# Altium integrated library WE-MAPI (rev22a).IntLib: 137 symbols (part 1 of 2)
Pins are listed as number, name and electrical type; pins without a type are passive.

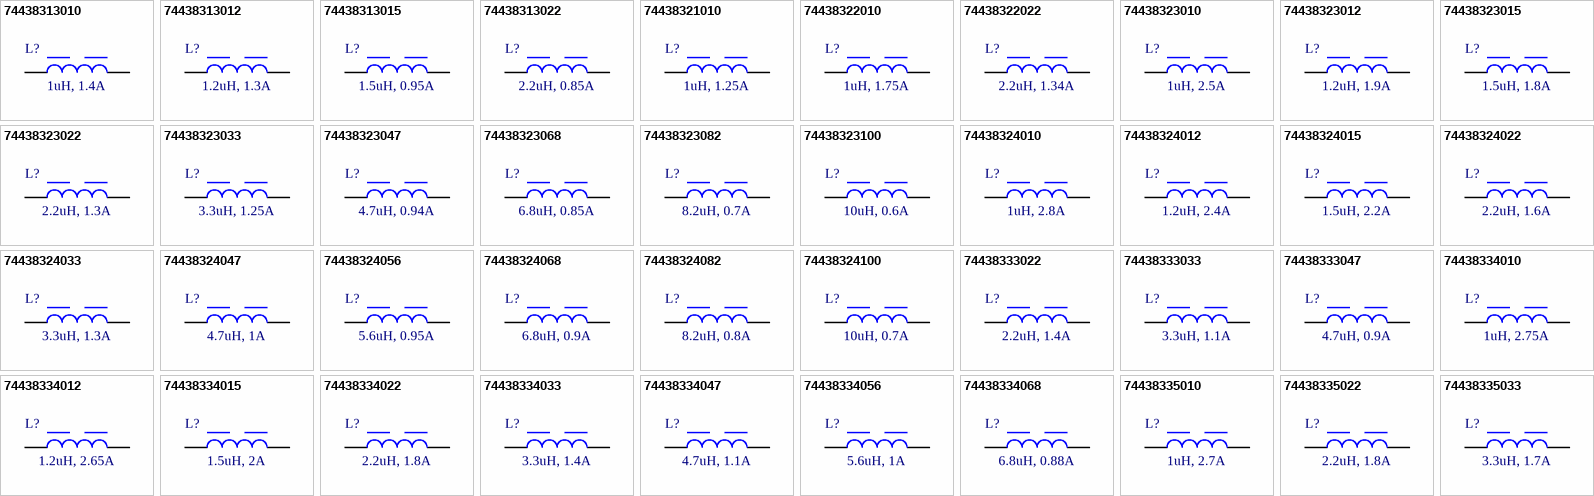
[diagram p0: symbols 74438313010 to 74438335033]

## 74438313010
designator L?, comment 1uH, 1.4A
WE-MAPI SMT Power Inductor, size 1610, 1uH, 1.4A; Manufacturer: Wurth Elektronik; Manufacturer Part Number: 74438313010; DC Resistance typ.: 127mOhm; DC Resistance max.: 159mOhm; Self Resonant Frequency: 111MHz; Saturation Current: 3.4A; ComponentLink1Description: Manufacturer; ComponentLink1URL: http://www.we-online.de; ComponentLink2Description: Datasheet; ComponentLink2URL: https://www.we-online.com/catalog/datasheet/74438313010.pdf; Mounting Technology: SMT; Operating Temperature: -40 to +125degC; Packaging: Tape and Reel; Size: 1610; Inductance: 1uH; Rated Current: 1.4A; Height: 1mm; Length: 1.6mm; Width: 1.6mm
footprint WE-MAPI_1610
pins: 1, 2

## 74438313012
designator L?, comment 1.2uH, 1.3A
WE-MAPI SMT Power Inductor, size 1610, 1.2uH, 1.3A; Manufacturer: Wurth Elektronik; Manufacturer Part Number: 74438313012; DC Resistance typ.: 140mOhm; DC Resistance max.: 174mOhm; Self Resonant Frequency: 109MHz; Saturation Current: 3.2A; ComponentLink1Description: Manufacturer; ComponentLink1URL: http://www.we-online.de; ComponentLink2Description: Datasheet; ComponentLink2URL: https://www.we-online.com/catalog/datasheet/74438313012.pdf; Mounting Technology: SMT; Operating Temperature: -40 to +125degC; Packaging: Tape and Reel; Size: 1610; Inductance: 1.2uH; Rated Current: 1.3A; Height: 1mm; Length: 1.6mm; Width: 1.6mm
footprint WE-MAPI_1610
pins: 1, 2

## 74438313015
designator L?, comment 1.5uH, 0.95A
WE-MAPI SMT Power Inductor, size 1610, 1.5uH, 0.95A; Manufacturer: Wurth Elektronik; Manufacturer Part Number: 74438313015; DC Resistance typ.: 189mOhm; DC Resistance max.: 237mOhm; Self Resonant Frequency: 90MHz; Saturation Current: 2.7A; ComponentLink1Description: Manufacturer; ComponentLink1URL: http://www.we-online.de; ComponentLink2Description: Datasheet; ComponentLink2URL: https://www.we-online.com/catalog/datasheet/74438313015.pdf; Mounting Technology: SMT; Operating Temperature: -40 to +125degC; Packaging: Tape and Reel; Size: 1610; Inductance: 1.5uH; Rated Current: 0.95A; Height: 1mm; Length: 1.6mm; Width: 1.6mm
footprint WE-MAPI_1610
pins: 1, 2

## 74438313022
designator L?, comment 2.2uH, 0.85A
WE-MAPI SMT Power Inductor, size 1610, 2.2uH, 0.85A; Manufacturer: Wurth Elektronik; Manufacturer Part Number: 74438313022; DC Resistance typ.: 337mOhm; DC Resistance max.: 388mOhm; Self Resonant Frequency: 70MHz; Saturation Current: 2.5A; ComponentLink1Description: Manufacturer; ComponentLink1URL: http://www.we-online.de; ComponentLink2Description: Datasheet; ComponentLink2URL: https://www.we-online.com/catalog/datasheet/74438313022.pdf; Mounting Technology: SMT; Operating Temperature: -40 to +125degC; Packaging: Tape and Reel; Size: 1610; Inductance: 2.2uH; Rated Current: 0.85A; Height: 1mm; Length: 1.6mm; Width: 1.6mm
footprint WE-MAPI_1610
pins: 1, 2

## 74438321010
designator L?, comment 1uH, 1.25A
WE-MAPI SMT Power Inductor, size 2506, 1uH, 1.25A; Manufacturer: Wurth Elektronik; Manufacturer Part Number: 74438321010; DC Resistance typ.: 163mOhm; DC Resistance max.: 196mOhm; Self Resonant Frequency: 90MHz; Saturation Current: 2.5A; ComponentLink1Description: Manufacturer; ComponentLink1URL: http://www.we-online.de; ComponentLink2Description: Datasheet; ComponentLink2URL: https://www.we-online.com/catalog/datasheet/74438321010.pdf; Mounting Technology: SMT; Operating Temperature: -40 to +125degC; Packaging: Tape and Reel; Size: 2506; Inductance: 1uH; Rated Current: 1.25A; Height: 0.6mm; Length: 2.5mm; Width: 2mm
footprint WE-MAPI_2506
pins: 1, 2

## 74438322010
designator L?, comment 1uH, 1.75A
WE-MAPI SMT Power Inductor, size 2508, 1uH, 1.75A; Manufacturer: Wurth Elektronik; Manufacturer Part Number: 74438322010; DC Resistance typ.: 107mOhm; DC Resistance max.: 133mOhm; Self Resonant Frequency: 100MHz; Saturation Current: 3.35A; ComponentLink1Description: Manufacturer; ComponentLink1URL: http://www.we-online.de; ComponentLink2Description: Datasheet; ComponentLink2URL: https://www.we-online.com/catalog/datasheet/74438322010.pdf; Mounting Technology: SMT; Operating Temperature: -40 to +125degC; Packaging: Tape and Reel; Size: 2508; Inductance: 1uH; Rated Current: 1.75A; Height: 0.8mm; Length: 2.5mm; Width: 2mm
footprint WE-MAPI_2508
pins: 1, 2

## 74438322022
designator L?, comment 2.2uH, 1.34A
WE-MAPI SMT Power Inductor, size 2508, 2.2uH, 1.34A; Manufacturer: Wurth Elektronik; Manufacturer Part Number: 74438322022; DC Resistance typ.: 252mOhm; DC Resistance max.: 302mOhm; Self Resonant Frequency: 60MHz; Saturation Current: 2.2A; ComponentLink1Description: Manufacturer; ComponentLink1URL: http://www.we-online.de; ComponentLink2Description: Datasheet; ComponentLink2URL: https://www.we-online.com/catalog/datasheet/74438322022.pdf; Mounting Technology: SMT; Operating Temperature: -40 to +125degC; Packaging: Tape and Reel; Size: 2508; Inductance: 2.2uH; Rated Current: 1.34A; Height: 0.8mm; Length: 2.5mm; Width: 2mm
footprint WE-MAPI_2508
pins: 1, 2

## 74438323010
designator L?, comment 1uH, 2.5A
WE-MAPI SMT Power Inductor, size 2510, 1uH, 2.5A; Manufacturer: Wurth Elektronik; Manufacturer Part Number: 74438323010; DC Resistance typ.: 63mOhm; DC Resistance max.: 75mOhm; Self Resonant Frequency: 80MHz; Saturation Current: 4A; ComponentLink1Description: Manufacturer; ComponentLink1URL: http://www.we-online.de; ComponentLink2Description: Datasheet; ComponentLink2URL: https://www.we-online.com/catalog/datasheet/74438323010.pdf; Mounting Technology: SMT; Operating Temperature: -40 to +125degC; Packaging: Tape and Reel; Size: 2510; Inductance: 1uH; Rated Current: 2.5A; Height: 1mm; Length: 2.5mm; Width: 2mm
footprint WE-MAPI_2510
pins: 1, 2

## 74438323012
designator L?, comment 1.2uH, 1.9A
WE-MAPI SMT Power Inductor, size 2510, 1.2uH, 1.9A; Manufacturer: Wurth Elektronik; Manufacturer Part Number: 74438323012; DC Resistance typ.: 82mOhm; DC Resistance max.: 106mOhm; Self Resonant Frequency: 75MHz; Saturation Current: 3.8A; ComponentLink1Description: Manufacturer; ComponentLink1URL: http://www.we-online.de; ComponentLink2Description: Datasheet; ComponentLink2URL: https://www.we-online.com/catalog/datasheet/74438323012.pdf; Mounting Technology: SMT; Operating Temperature: -40 to +125degC; Packaging: Tape and Reel; Size: 2510; Inductance: 1.2uH; Rated Current: 1.9A; Height: 1mm; Length: 2.5mm; Width: 2mm
footprint WE-MAPI_2510
pins: 1, 2

## 74438323015
designator L?, comment 1.5uH, 1.8A
WE-MAPI SMT Power Inductor, size 2510, 1.5uH, 1.8A; Manufacturer: Wurth Elektronik; Manufacturer Part Number: 74438323015; DC Resistance typ.: 92mOhm; DC Resistance max.: 110mOhm; Self Resonant Frequency: 65MHz; Saturation Current: 3.5A; ComponentLink1Description: Manufacturer; ComponentLink1URL: http://www.we-online.de; ComponentLink2Description: Datasheet; ComponentLink2URL: https://www.we-online.com/catalog/datasheet/74438323015.pdf; Mounting Technology: SMT; Operating Temperature: -40 to +125degC; Packaging: Tape and Reel; Size: 2510; Inductance: 1.5uH; Rated Current: 1.8A; Height: 1mm; Length: 2.5mm; Width: 2mm
footprint WE-MAPI_2510
pins: 1, 2

## 74438323022
designator L?, comment 2.2uH, 1.3A
WE-MAPI SMT Power Inductor, size 2510, 2.2uH, 1.3A; Manufacturer: Wurth Elektronik; Manufacturer Part Number: 74438323022; DC Resistance typ.: 147mOhm; DC Resistance max.: 176mOhm; Self Resonant Frequency: 60MHz; Saturation Current: 2.5A; ComponentLink1Description: Manufacturer; ComponentLink1URL: http://www.we-online.de; ComponentLink2Description: Datasheet; ComponentLink2URL: https://www.we-online.com/catalog/datasheet/74438323022.pdf; Mounting Technology: SMT; Operating Temperature: -40 to +125degC; Packaging: Tape and Reel; Size: 2510; Inductance: 2.2uH; Rated Current: 1.3A; Height: 1mm; Length: 2.5mm; Width: 2mm
footprint WE-MAPI_2510
pins: 1, 2

## 74438323033
designator L?, comment 3.3uH, 1.25A
WE-MAPI SMT Power Inductor, size 2510, 3.3uH, 1.25A; Manufacturer: Wurth Elektronik; Manufacturer Part Number: 74438323033; DC Resistance typ.: 220mOhm; DC Resistance max.: 264mOhm; Self Resonant Frequency: 50MHz; Saturation Current: 2.1A; ComponentLink1Description: Manufacturer; ComponentLink1URL: http://www.we-online.de; ComponentLink2Description: Datasheet; ComponentLink2URL: https://www.we-online.com/catalog/datasheet/74438323033.pdf; Mounting Technology: SMT; Operating Temperature: -40 to +125degC; Packaging: Tape and Reel; Size: 2510; Inductance: 3.3uH; Rated Current: 1.25A; Height: 1mm; Length: 2.5mm; Width: 2mm
footprint WE-MAPI_2510
pins: 1, 2

## 74438323047
designator L?, comment 4.7uH, 0.94A
WE-MAPI SMT Power Inductor, size 2510, 4.7uH, 0.94A; Manufacturer: Wurth Elektronik; Manufacturer Part Number: 74438323047; DC Resistance typ.: 338mOhm; DC Resistance max.: 388mOhm; Self Resonant Frequency: 35MHz; Saturation Current: 1.75A; ComponentLink1Description: Manufacturer; ComponentLink1URL: http://www.we-online.de; ComponentLink2Description: Datasheet; ComponentLink2URL: https://www.we-online.com/catalog/datasheet/74438323047.pdf; Mounting Technology: SMT; Operating Temperature: -40 to +125degC; Packaging: Tape and Reel; Size: 2510; Inductance: 4.7uH; Rated Current: 0.94A; Height: 1mm; Length: 2.5mm; Width: 2mm
footprint WE-MAPI_2510
pins: 1, 2

## 74438323068
designator L?, comment 6.8uH, 0.85A
WE-MAPI SMT Power Inductor, size 2510, 6.8uH, 0.85A; Manufacturer: Wurth Elektronik; Manufacturer Part Number: 74438323068; DC Resistance typ.: 563mOhm; DC Resistance max.: 648mOhm; Self Resonant Frequency: 30MHz; Saturation Current: 1.55A; ComponentLink1Description: Manufacturer; ComponentLink1URL: http://www.we-online.de; ComponentLink2Description: Datasheet; ComponentLink2URL: https://www.we-online.com/catalog/datasheet/74438323068.pdf; Mounting Technology: SMT; Operating Temperature: -40 to +125degC; Packaging: Tape and Reel; Size: 2510; Inductance: 6.8uH; Rated Current: 0.85A; Height: 1mm; Length: 2.5mm; Width: 2mm
footprint WE-MAPI_2510
pins: 1, 2

## 74438323082
designator L?, comment 8.2uH, 0.7A
WE-MAPI SMT Power Inductor, size 2510, 8.2uH, 0.7A; Manufacturer: Wurth Elektronik; Manufacturer Part Number: 74438323082; DC Resistance typ.: 646mOhm; DC Resistance max.: 743mOhm; Self Resonant Frequency: 27MHz; Saturation Current: 1.45A; ComponentLink1Description: Manufacturer; ComponentLink1URL: http://www.we-online.de; ComponentLink2Description: Datasheet; ComponentLink2URL: https://www.we-online.com/catalog/datasheet/74438323082.pdf; Mounting Technology: SMT; Operating Temperature: -40 to +125degC; Packaging: Tape and Reel; Size: 2510; Inductance: 8.2uH; Rated Current: 0.7A; Height: 1mm; Length: 2.5mm; Width: 2mm
footprint WE-MAPI_2510
pins: 1, 2

## 74438323100
designator L?, comment 10uH, 0.6A
WE-MAPI SMT Power Inductor, size 2510, 10uH, 0.6A; Manufacturer: Wurth Elektronik; Manufacturer Part Number: 74438323100; DC Resistance typ.: 733mOhm; DC Resistance max.: 843mOhm; Self Resonant Frequency: 25MHz; Saturation Current: 1.35A; ComponentLink1Description: Manufacturer; ComponentLink1URL: http://www.we-online.de; ComponentLink2Description: Datasheet; ComponentLink2URL: https://www.we-online.com/catalog/datasheet/74438323100.pdf; Mounting Technology: SMT; Operating Temperature: -40 to +125degC; Packaging: Tape and Reel; Size: 2510; Inductance: 10uH; Rated Current: 0.6A; Height: 1mm; Length: 2.5mm; Width: 2mm
footprint WE-MAPI_2510
pins: 1, 2

## 74438324010
designator L?, comment 1uH, 2.8A
WE-MAPI SMT Power Inductor, size 2512, 1uH, 2.8A; Manufacturer: Wurth Elektronik; Manufacturer Part Number: 74438324010; DC Resistance typ.: 49mOhm; DC Resistance max.: 60mOhm; Self Resonant Frequency: 85MHz; Saturation Current: 4.9A; ComponentLink1Description: Manufacturer; ComponentLink1URL: http://www.we-online.de; ComponentLink2Description: Datasheet; ComponentLink2URL: https://www.we-online.com/catalog/datasheet/74438324010.pdf; Mounting Technology: SMT; Operating Temperature: -40 to +125degC; Packaging: Tape and Reel; Size: 2512; Inductance: 1uH; Rated Current: 2.8A; Height: 1.2mm; Length: 2.5mm; Width: 2mm
footprint WE-MAPI_2512
pins: 1, 2

## 74438324012
designator L?, comment 1.2uH, 2.4A
WE-MAPI SMT Power Inductor, size 2512, 1.2uH, 2.4A; Manufacturer: Wurth Elektronik; Manufacturer Part Number: 74438324012; DC Resistance typ.: 67mOhm; DC Resistance max.: 80mOhm; Self Resonant Frequency: 80MHz; Saturation Current: 4.5A; ComponentLink1Description: Manufacturer; ComponentLink1URL: http://www.we-online.de; ComponentLink2Description: Datasheet; ComponentLink2URL: https://www.we-online.com/catalog/datasheet/74438324012.pdf; Mounting Technology: SMT; Operating Temperature: -40 to +125degC; Packaging: Tape and Reel; Size: 2512; Inductance: 1.2uH; Rated Current: 2.4A; Height: 1.2mm; Length: 2.5mm; Width: 2mm
footprint WE-MAPI_2512
pins: 1, 2

## 74438324015
designator L?, comment 1.5uH, 2.2A
WE-MAPI SMT Power Inductor, size 2512, 1.5uH, 2.2A; Manufacturer: Wurth Elektronik; Manufacturer Part Number: 74438324015; DC Resistance typ.: 82mOhm; DC Resistance max.: 99mOhm; Self Resonant Frequency: 60MHz; Saturation Current: 3.7A; ComponentLink1Description: Manufacturer; ComponentLink1URL: http://www.we-online.de; ComponentLink2Description: Datasheet; ComponentLink2URL: https://www.we-online.com/catalog/datasheet/74438324015.pdf; Mounting Technology: SMT; Operating Temperature: -40 to +125degC; Packaging: Tape and Reel; Size: 2512; Inductance: 1.5uH; Rated Current: 2.2A; Height: 1.2mm; Length: 2.5mm; Width: 2mm
footprint WE-MAPI_2512
pins: 1, 2

## 74438324022
designator L?, comment 2.2uH, 1.6A
WE-MAPI SMT Power Inductor, size 2512, 2.2uH, 1.6A; Manufacturer: Wurth Elektronik; Manufacturer Part Number: 74438324022; DC Resistance typ.: 123mOhm; DC Resistance max.: 141mOhm; Self Resonant Frequency: 57MHz; Saturation Current: 2.9A; ComponentLink1Description: Manufacturer; ComponentLink1URL: http://www.we-online.de; ComponentLink2Description: Datasheet; ComponentLink2URL: https://www.we-online.com/catalog/datasheet/74438324022.pdf; Mounting Technology: SMT; Operating Temperature: -40 to +125degC; Packaging: Tape and Reel; Size: 2512; Inductance: 2.2uH; Rated Current: 1.6A; Height: 1.2mm; Length: 2.5mm; Width: 2mm
footprint WE-MAPI_2512
pins: 1, 2

## 74438324033
designator L?, comment 3.3uH, 1.3A
WE-MAPI SMT Power Inductor, size 2512, 3.3uH, 1.3A; Manufacturer: Wurth Elektronik; Manufacturer Part Number: 74438324033; DC Resistance typ.: 226mOhm; DC Resistance max.: 260mOhm; Self Resonant Frequency: 42MHz; Saturation Current: 2.6A; ComponentLink1Description: Manufacturer; ComponentLink1URL: http://www.we-online.de; ComponentLink2Description: Datasheet; ComponentLink2URL: https://www.we-online.com/catalog/datasheet/74438324033.pdf; Mounting Technology: SMT; Operating Temperature: -40 to +125degC; Packaging: Tape and Reel; Size: 2512; Inductance: 3.3uH; Rated Current: 1.3A; Height: 1.2mm; Length: 2.5mm; Width: 2mm
footprint WE-MAPI_2512
pins: 1, 2

## 74438324047
designator L?, comment 4.7uH, 1A
WE-MAPI SMT Power Inductor, size 2512, 4.7uH, 1A; Manufacturer: Wurth Elektronik; Manufacturer Part Number: 74438324047; DC Resistance typ.: 300mOhm; DC Resistance max.: 345mOhm; Self Resonant Frequency: 35MHz; Saturation Current: 2.1A; ComponentLink1Description: Manufacturer; ComponentLink1URL: http://www.we-online.de; ComponentLink2Description: Datasheet; ComponentLink2URL: https://www.we-online.com/catalog/datasheet/74438324047.pdf; Mounting Technology: SMT; Operating Temperature: -40 to +125degC; Packaging: Tape and Reel; Size: 2512; Inductance: 4.7uH; Rated Current: 1A; Height: 1.2mm; Length: 2.5mm; Width: 2mm
footprint WE-MAPI_2512
pins: 1, 2

## 74438324056
designator L?, comment 5.6uH, 0.95A
WE-MAPI SMT Power Inductor, size 2512, 5.6uH, 0.95A; Manufacturer: Wurth Elektronik; Manufacturer Part Number: 74438324056; DC Resistance typ.: 405mOhm; DC Resistance max.: 465mOhm; Self Resonant Frequency: 30MHz; Saturation Current: 1.75A; ComponentLink1Description: Manufacturer; ComponentLink1URL: http://www.we-online.de; ComponentLink2Description: Datasheet; ComponentLink2URL: https://www.we-online.com/catalog/datasheet/74438324056.pdf; Mounting Technology: SMT; Operating Temperature: -40 to +125degC; Packaging: Tape and Reel; Size: 2512; Inductance: 5.6uH; Rated Current: 0.95A; Height: 1.2mm; Length: 2.5mm; Width: 2mm
footprint WE-MAPI_2512
pins: 1, 2

## 74438324068
designator L?, comment 6.8uH, 0.9A
WE-MAPI SMT Power Inductor, size 2512, 6.8uH, 0.9A; Manufacturer: Wurth Elektronik; Manufacturer Part Number: 74438324068; DC Resistance typ.: 560mOhm; DC Resistance max.: 640mOhm; Self Resonant Frequency: 27MHz; Saturation Current: 1.6A; ComponentLink1Description: Manufacturer; ComponentLink1URL: http://www.we-online.de; ComponentLink2Description: Datasheet; ComponentLink2URL: https://www.we-online.com/catalog/datasheet/74438324068.pdf; Mounting Technology: SMT; Operating Temperature: -40 to +125degC; Packaging: Tape and Reel; Size: 2512; Inductance: 6.8uH; Rated Current: 0.9A; Height: 1.2mm; Length: 2.5mm; Width: 2mm
footprint WE-MAPI_2512
pins: 1, 2

## 74438324082
designator L?, comment 8.2uH, 0.8A
WE-MAPI SMT Power Inductor, size 2512, 8.2uH, 0.8A; Manufacturer: Wurth Elektronik; Manufacturer Part Number: 74438324082; DC Resistance typ.: 630mOhm; DC Resistance max.: 720mOhm; Self Resonant Frequency: 25MHz; Saturation Current: 1.5A; ComponentLink1Description: Manufacturer; ComponentLink1URL: http://www.we-online.de; ComponentLink2Description: Datasheet; ComponentLink2URL: https://www.we-online.com/catalog/datasheet/74438324082.pdf; Mounting Technology: SMT; Operating Temperature: -40 to +125degC; Packaging: Tape and Reel; Size: 2512; Inductance: 8.2uH; Rated Current: 0.8A; Height: 1.2mm; Length: 2.5mm; Width: 2mm
footprint WE-MAPI_2512
pins: 1, 2

## 74438324100
designator L?, comment 10uH, 0.7A
WE-MAPI SMT Power Inductor, size 2512, 10uH, 0.7A; Manufacturer: Wurth Elektronik; Manufacturer Part Number: 74438324100; DC Resistance typ.: 680mOhm; DC Resistance max.: 780mOhm; Self Resonant Frequency: 23MHz; Saturation Current: 1.4A; ComponentLink1Description: Manufacturer; ComponentLink1URL: http://www.we-online.de; ComponentLink2Description: Datasheet; ComponentLink2URL: https://www.we-online.com/catalog/datasheet/74438324100.pdf; Mounting Technology: SMT; Operating Temperature: -40 to +125degC; Packaging: Tape and Reel; Size: 2512; Inductance: 10uH; Rated Current: 0.7A; Height: 1.2mm; Length: 2.5mm; Width: 2mm
footprint WE-MAPI_2512
pins: 1, 2

## 74438333022
designator L?, comment 2.2uH, 1.4A
WE-MAPI SMT Power Inductor, size 3010, 2.2uH, 1.4A; Manufacturer: Wurth Elektronik; Manufacturer Part Number: 74438333022; DC Resistance typ.: 150mOhm; DC Resistance max.: 172mOhm; Self Resonant Frequency: 50MHz; Saturation Current: 3.9A; ComponentLink1Description: Manufacturer; ComponentLink1URL: http://www.we-online.de; ComponentLink2Description: Datasheet; ComponentLink2URL: https://www.we-online.com/catalog/datasheet/74438333022.pdf; Mounting Technology: SMT; Operating Temperature: -40 to +125degC; Packaging: Tape and Reel; Size: 3010; Inductance: 2.2uH; Rated Current: 1.4A; Height: 1mm; Length: 3mm; Width: 3mm
footprint WE-MAPI_3010
pins: 1, 2

## 74438333033
designator L?, comment 3.3uH, 1.1A
WE-MAPI SMT Power Inductor, size 3010, 3.3uH, 1.1A; Manufacturer: Wurth Elektronik; Manufacturer Part Number: 74438333033; DC Resistance typ.: 232mOhm; DC Resistance max.: 266mOhm; Self Resonant Frequency: 38MHz; Saturation Current: 2.95A; ComponentLink1Description: Manufacturer; ComponentLink1URL: http://www.we-online.de; ComponentLink2Description: Datasheet; ComponentLink2URL: https://www.we-online.com/catalog/datasheet/74438333033.pdf; Mounting Technology: SMT; Operating Temperature: -40 to +125degC; Packaging: Tape and Reel; Size: 3010; Inductance: 3.3uH; Rated Current: 1.1A; Height: 1mm; Length: 3mm; Width: 3mm
footprint WE-MAPI_3010
pins: 1, 2

## 74438333047
designator L?, comment 4.7uH, 0.9A
WE-MAPI SMT Power Inductor, size 3010, 4.7uH, 0.9A; Manufacturer: Wurth Elektronik; Manufacturer Part Number: 74438333047; DC Resistance typ.: 356mOhm; DC Resistance max.: 409mOhm; Self Resonant Frequency: 35MHz; Saturation Current: 2.4A; ComponentLink1Description: Manufacturer; ComponentLink1URL: http://www.we-online.de; ComponentLink2Description: Datasheet; ComponentLink2URL: https://www.we-online.com/catalog/datasheet/74438333047.pdf; Mounting Technology: SMT; Operating Temperature: -40 to +125degC; Packaging: Tape and Reel; Size: 3010; Inductance: 4.7uH; Rated Current: 0.9A; Height: 1mm; Length: 3mm; Width: 3mm
footprint WE-MAPI_3010
pins: 1, 2

## 74438334010
designator L?, comment 1uH, 2.75A
WE-MAPI SMT Power Inductor, size 3012, 1uH, 2.75A; Manufacturer: Wurth Elektronik; Manufacturer Part Number: 74438334010; DC Resistance typ.: 42.1mOhm; DC Resistance max.: 50.5mOhm; Self Resonant Frequency: 80MHz; Saturation Current: 6.6A; ComponentLink1Description: Manufacturer; ComponentLink1URL: http://www.we-online.de; ComponentLink2Description: Datasheet; ComponentLink2URL: https://www.we-online.com/catalog/datasheet/74438334010.pdf; Mounting Technology: SMT; Operating Temperature: -40 to +125degC; Packaging: Tape and Reel; Size: 3012; Inductance: 1uH; Rated Current: 2.75A; Height: 1.2mm; Length: 3mm; Width: 3mm
footprint WE-MAPI_3012
pins: 1, 2

## 74438334012
designator L?, comment 1.2uH, 2.65A
WE-MAPI SMT Power Inductor, size 3012, 1.2uH, 2.65A; Manufacturer: Wurth Elektronik; Manufacturer Part Number: 74438334012; DC Resistance typ.: 55mOhm; DC Resistance max.: 66mOhm; Self Resonant Frequency: 66MHz; Saturation Current: 6A; ComponentLink1Description: Manufacturer; ComponentLink1URL: http://www.we-online.de; ComponentLink2Description: Datasheet; ComponentLink2URL: https://www.we-online.com/catalog/datasheet/74438334012.pdf; Mounting Technology: SMT; Operating Temperature: -40 to +125degC; Packaging: Tape and Reel; Size: 3012; Inductance: 1.2uH; Rated Current: 2.65A; Height: 1.2mm; Length: 3mm; Width: 3mm
footprint WE-MAPI_3012
pins: 1, 2

## 74438334015
designator L?, comment 1.5uH, 2A
WE-MAPI SMT Power Inductor, size 3012, 1.5uH, 2A; Manufacturer: Wurth Elektronik; Manufacturer Part Number: 74438334015; DC Resistance typ.: 80mOhm; DC Resistance max.: 96mOhm; Self Resonant Frequency: 60MHz; Saturation Current: 5.7A; ComponentLink1Description: Manufacturer; ComponentLink1URL: http://www.we-online.de; ComponentLink2Description: Datasheet; ComponentLink2URL: https://www.we-online.com/catalog/datasheet/74438334015.pdf; Mounting Technology: SMT; Operating Temperature: -40 to +125degC; Packaging: Tape and Reel; Size: 3012; Inductance: 1.5uH; Rated Current: 2A; Height: 1.2mm; Length: 3mm; Width: 3mm
footprint WE-MAPI_3012
pins: 1, 2

## 74438334022
designator L?, comment 2.2uH, 1.8A
WE-MAPI SMT Power Inductor, size 3012, 2.2uH, 1.8A; Manufacturer: Wurth Elektronik; Manufacturer Part Number: 74438334022; DC Resistance typ.: 100mOhm; DC Resistance max.: 115mOhm; Self Resonant Frequency: 50MHz; Saturation Current: 5A; ComponentLink1Description: Manufacturer; ComponentLink1URL: http://www.we-online.de; ComponentLink2Description: Datasheet; ComponentLink2URL: https://www.we-online.com/catalog/datasheet/74438334022.pdf; Mounting Technology: SMT; Operating Temperature: -40 to +125degC; Packaging: Tape and Reel; Size: 3012; Inductance: 2.2uH; Rated Current: 1.8A; Height: 1.2mm; Length: 3mm; Width: 3mm
footprint WE-MAPI_3012
pins: 1, 2

## 74438334033
designator L?, comment 3.3uH, 1.4A
WE-MAPI SMT Power Inductor, size 3012, 3.3uH, 1.4A; Manufacturer: Wurth Elektronik; Manufacturer Part Number: 74438334033; DC Resistance typ.: 156.3mOhm; DC Resistance max.: 179.7mOhm; Self Resonant Frequency: 36MHz; Saturation Current: 4A; ComponentLink1Description: Manufacturer; ComponentLink1URL: http://www.we-online.de; ComponentLink2Description: Datasheet; ComponentLink2URL: https://www.we-online.com/catalog/datasheet/74438334033.pdf; Mounting Technology: SMT; Operating Temperature: -40 to +125degC; Packaging: Tape and Reel; Size: 3012; Inductance: 3.3uH; Rated Current: 1.4A; Height: 1.2mm; Length: 3mm; Width: 3mm
footprint WE-MAPI_3012
pins: 1, 2

## 74438334047
designator L?, comment 4.7uH, 1.1A
WE-MAPI SMT Power Inductor, size 3012, 4.7uH, 1.1A; Manufacturer: Wurth Elektronik; Manufacturer Part Number: 74438334047; DC Resistance typ.: 267.7mOhm; DC Resistance max.: 307.8mOhm; Self Resonant Frequency: 30MHz; Saturation Current: 3.8A; ComponentLink1Description: Manufacturer; ComponentLink1URL: http://www.we-online.de; ComponentLink2Description: Datasheet; ComponentLink2URL: https://www.we-online.com/catalog/datasheet/74438334047.pdf; Mounting Technology: SMT; Operating Temperature: -40 to +125degC; Packaging: Tape and Reel; Size: 3012; Inductance: 4.7uH; Rated Current: 1.1A; Height: 1.2mm; Length: 3mm; Width: 3mm
footprint WE-MAPI_3012
pins: 1, 2

## 74438334056
designator L?, comment 5.6uH, 1A
WE-MAPI SMT Power Inductor, size 3012, 5.6uH, 1A; Manufacturer: Wurth Elektronik; Manufacturer Part Number: 74438334056; DC Resistance typ.: 338.3mOhm; DC Resistance max.: 389mOhm; Self Resonant Frequency: 28MHz; Saturation Current: 3A; ComponentLink1Description: Manufacturer; ComponentLink1URL: http://www.we-online.de; ComponentLink2Description: Datasheet; ComponentLink2URL: https://www.we-online.com/catalog/datasheet/74438334056.pdf; Mounting Technology: SMT; Operating Temperature: -40 to +125degC; Packaging: Tape and Reel; Size: 3012; Inductance: 5.6uH; Rated Current: 1A; Height: 1.2mm; Length: 3mm; Width: 3mm
footprint WE-MAPI_3012
pins: 1, 2

## 74438334068
designator L?, comment 6.8uH, 0.88A
WE-MAPI SMT Power Inductor, size 3012, 6.8uH, 0.88A; Manufacturer: Wurth Elektronik; Manufacturer Part Number: 74438334068; DC Resistance typ.: 368.2mOhm; DC Resistance max.: 423.4mOhm; Self Resonant Frequency: 25MHz; Saturation Current: 2.7A; ComponentLink1Description: Manufacturer; ComponentLink1URL: http://www.we-online.de; ComponentLink2Description: Datasheet; ComponentLink2URL: https://www.we-online.com/catalog/datasheet/74438334068.pdf; Mounting Technology: SMT; Operating Temperature: -40 to +125degC; Packaging: Tape and Reel; Size: 3012; Inductance: 6.8uH; Rated Current: 0.88A; Height: 1.2mm; Length: 3mm; Width: 3mm
footprint WE-MAPI_3012
pins: 1, 2

## 74438335010
designator L?, comment 1uH, 2.7A
WE-MAPI SMT Power Inductor, size 3015, 1uH, 2.7A; Manufacturer: Wurth Elektronik; Manufacturer Part Number: 74438335010; DC Resistance typ.: 39mOhm; DC Resistance max.: 47mOhm; Self Resonant Frequency: 72MHz; Saturation Current: 4.5A; ComponentLink1Description: Manufacturer; ComponentLink1URL: http://www.we-online.de; ComponentLink2Description: Datasheet; ComponentLink2URL: https://www.we-online.com/catalog/datasheet/74438335010.pdf; Mounting Technology: SMT; Operating Temperature: -40 to +125degC; Packaging: Tape and Reel; Size: 3015; Inductance: 1uH; Rated Current: 2.7A; Height: 1.5mm; Length: 3mm; Width: 3mm
footprint WE-MAPI_3015
pins: 1, 2

## 74438335022
designator L?, comment 2.2uH, 1.8A
WE-MAPI SMT Power Inductor, size 3015, 2.2uH, 1.8A; Manufacturer: Wurth Elektronik; Manufacturer Part Number: 74438335022; DC Resistance typ.: 94mOhm; DC Resistance max.: 108mOhm; Self Resonant Frequency: 45MHz; Saturation Current: 3.5A; ComponentLink1Description: Manufacturer; ComponentLink1URL: http://www.we-online.de; ComponentLink2Description: Datasheet; ComponentLink2URL: https://www.we-online.com/catalog/datasheet/74438335022.pdf; Mounting Technology: SMT; Operating Temperature: -40 to +125degC; Packaging: Tape and Reel; Size: 3015; Inductance: 2.2uH; Rated Current: 1.8A; Height: 1.5mm; Length: 3mm; Width: 3mm
footprint WE-MAPI_3015
pins: 1, 2

## 74438335033
designator L?, comment 3.3uH, 1.7A
WE-MAPI SMT Power Inductor, size 3015, 3.3uH, 1.7A; Manufacturer: Wurth Elektronik; Manufacturer Part Number: 74438335033; DC Resistance typ.: 114mOhm; DC Resistance max.: 131mOhm; Self Resonant Frequency: 35MHz; Saturation Current: 3.2A; ComponentLink1Description: Manufacturer; ComponentLink1URL: http://www.we-online.de; ComponentLink2Description: Datasheet; ComponentLink2URL: https://www.we-online.com/catalog/datasheet/74438335033.pdf; Mounting Technology: SMT; Operating Temperature: -40 to +125degC; Packaging: Tape and Reel; Size: 3015; Inductance: 3.3uH; Rated Current: 1.7A; Height: 1.5mm; Length: 3mm; Width: 3mm
footprint WE-MAPI_3015
pins: 1, 2

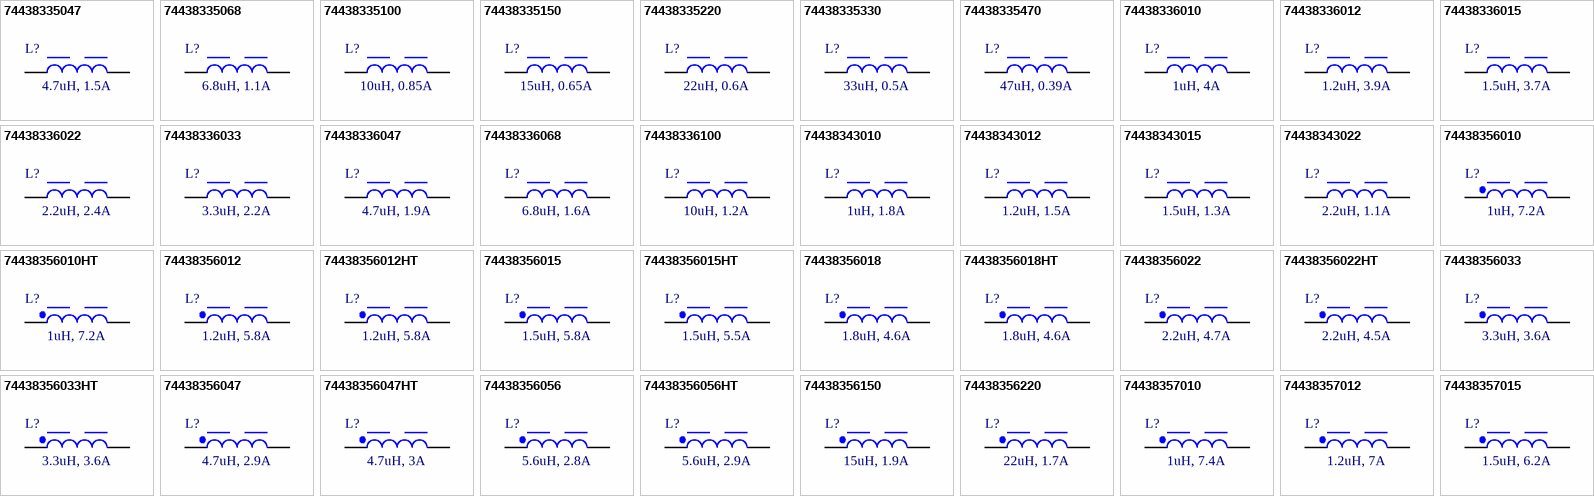
[diagram p1: symbols 74438335047 to 74438357015]

## 74438335047
designator L?, comment 4.7uH, 1.5A
WE-MAPI SMT Power Inductor, size 3015, 4.7uH, 1.5A; Manufacturer: Wurth Elektronik; Manufacturer Part Number: 74438335047; DC Resistance typ.: 141mOhm; DC Resistance max.: 162mOhm; Self Resonant Frequency: 30MHz; Saturation Current: 2.8A; ComponentLink1Description: Manufacturer; ComponentLink1URL: http://www.we-online.de; ComponentLink2Description: Datasheet; ComponentLink2URL: https://www.we-online.com/catalog/datasheet/74438335047.pdf; Mounting Technology: SMT; Operating Temperature: -40 to +125degC; Packaging: Tape and Reel; Size: 3015; Inductance: 4.7uH; Rated Current: 1.5A; Height: 1.5mm; Length: 3mm; Width: 3mm
footprint WE-MAPI_3015
pins: 1, 2

## 74438335068
designator L?, comment 6.8uH, 1.1A
WE-MAPI SMT Power Inductor, size 3015, 6.8uH, 1.1A; Manufacturer: Wurth Elektronik; Manufacturer Part Number: 74438335068; DC Resistance typ.: 250mOhm; DC Resistance max.: 287mOhm; Self Resonant Frequency: 25MHz; Saturation Current: 2.4A; ComponentLink1Description: Manufacturer; ComponentLink1URL: http://www.we-online.de; ComponentLink2Description: Datasheet; ComponentLink2URL: https://www.we-online.com/catalog/datasheet/74438335068.pdf; Mounting Technology: SMT; Operating Temperature: -40 to +125degC; Packaging: Tape and Reel; Size: 3015; Inductance: 6.8uH; Rated Current: 1.1A; Height: 1.5mm; Length: 3mm; Width: 3mm
footprint WE-MAPI_3015
pins: 1, 2

## 74438335100
designator L?, comment 10uH, 0.85A
WE-MAPI SMT Power Inductor, size 3015, 10uH, 0.85A; Manufacturer: Wurth Elektronik; Manufacturer Part Number: 74438335100; DC Resistance typ.: 446mOhm; DC Resistance max.: 513mOhm; Self Resonant Frequency: 21MHz; Saturation Current: 2A; ComponentLink1Description: Manufacturer; ComponentLink1URL: http://www.we-online.de; ComponentLink2Description: Datasheet; ComponentLink2URL: https://www.we-online.com/catalog/datasheet/74438335100.pdf; Mounting Technology: SMT; Operating Temperature: -40 to +125degC; Packaging: Tape and Reel; Size: 3015; Inductance: 10uH; Rated Current: 0.85A; Height: 1.5mm; Length: 3mm; Width: 3mm
footprint WE-MAPI_3015
pins: 1, 2

## 74438335150
designator L?, comment 15uH, 0.65A
WE-MAPI SMT Power Inductor, size 3015, 15uH, 0.65A; Manufacturer: Wurth Elektronik; Manufacturer Part Number: 74438335150; DC Resistance typ.: 720mOhm; DC Resistance max.: 830mOhm; Self Resonant Frequency: 14MHz; Saturation Current: 1.71A; ComponentLink1Description: Manufacturer; ComponentLink1URL: http://www.we-online.de; ComponentLink2Description: Datasheet; ComponentLink2URL: https://www.we-online.com/catalog/datasheet/74438335150.pdf; Mounting Technology: SMT; Operating Temperature: -40 to +125degC; Packaging: Tape and Reel; Size: 3015; Inductance: 15uH; Rated Current: 0.65A; Height: 1.5mm; Length: 3mm; Width: 3mm
footprint WE-MAPI_3015
pins: 1, 2

## 74438335220
designator L?, comment 22uH, 0.6A
WE-MAPI SMT Power Inductor, size 3015, 22uH, 0.6A; Manufacturer: Wurth Elektronik; Manufacturer Part Number: 74438335220; DC Resistance typ.: 940mOhm; DC Resistance max.: 1040mOhm; Self Resonant Frequency: 12MHz; Saturation Current: 1.6A; ComponentLink1Description: Manufacturer; ComponentLink1URL: http://www.we-online.de; ComponentLink2Description: Datasheet; ComponentLink2URL: https://www.we-online.com/catalog/datasheet/74438335220.pdf; Mounting Technology: SMT; Operating Temperature: -40 to +125degC; Packaging: Tape and Reel; Size: 3015; Inductance: 22uH; Rated Current: 0.6A; Height: 1.5mm; Length: 3mm; Width: 3mm
footprint WE-MAPI_3015
pins: 1, 2

## 74438335330
designator L?, comment 33uH, 0.5A
WE-MAPI SMT Power Inductor, size 3015, 33uH, 0.5A; Manufacturer: Wurth Elektronik; Manufacturer Part Number: 74438335330; DC Resistance typ.: 1210mOhm; DC Resistance max.: 1330mOhm; Self Resonant Frequency: 10MHz; Saturation Current: 1.3A; ComponentLink1Description: Manufacturer; ComponentLink1URL: http://www.we-online.de; ComponentLink2Description: Datasheet; ComponentLink2URL: https://www.we-online.com/catalog/datasheet/74438335330.pdf; Mounting Technology: SMT; Operating Temperature: -40 to +125degC; Packaging: Tape and Reel; Size: 3015; Inductance: 33uH; Rated Current: 0.5A; Height: 1.5mm; Length: 3mm; Width: 3mm
footprint WE-MAPI_3015
pins: 1, 2

## 74438335470
designator L?, comment 47uH, 0.39A
WE-MAPI SMT Power Inductor, size 3015, 47uH, 0.39A; Manufacturer: Wurth Elektronik; Manufacturer Part Number: 74438335470; DC Resistance typ.: 2090mOhm; DC Resistance max.: 2300mOhm; Self Resonant Frequency: 8MHz; Saturation Current: 1.18A; ComponentLink1Description: Manufacturer; ComponentLink1URL: http://www.we-online.de; ComponentLink2Description: Datasheet; ComponentLink2URL: https://www.we-online.com/catalog/datasheet/74438335470.pdf; Mounting Technology: SMT; Operating Temperature: -40 to +125degC; Packaging: Tape and Reel; Size: 3015; Inductance: 47uH; Rated Current: 0.39A; Height: 1.5mm; Length: 3mm; Width: 3mm
footprint WE-MAPI_3015
pins: 1, 2

## 74438336010
designator L?, comment 1uH, 4A
WE-MAPI SMT Power Inductor, size 3020, 1uH, 4A; Manufacturer: Wurth Elektronik; Manufacturer Part Number: 74438336010; DC Resistance typ.: 26mOhm; DC Resistance max.: 32mOhm; Self Resonant Frequency: 67MHz; Saturation Current: 5A; ComponentLink1Description: Manufacturer; ComponentLink1URL: http://www.we-online.de; ComponentLink2Description: Datasheet; ComponentLink2URL: https://www.we-online.com/catalog/datasheet/74438336010.pdf; Mounting Technology: SMT; Operating Temperature: -40 to +125degC; Packaging: Tape and Reel; Size: 3020; Inductance: 1uH; Rated Current: 4A; Height: 2mm; Length: 3mm; Width: 3mm
footprint WE-MAPI_3020
pins: 1, 2

## 74438336012
designator L?, comment 1.2uH, 3.9A
WE-MAPI SMT Power Inductor, size 3020, 1.2uH, 3.9A; Manufacturer: Wurth Elektronik; Manufacturer Part Number: 74438336012; DC Resistance typ.: 30mOhm; DC Resistance max.: 36mOhm; Self Resonant Frequency: 57MHz; Saturation Current: 4.75A; ComponentLink1Description: Manufacturer; ComponentLink1URL: http://www.we-online.de; ComponentLink2Description: Datasheet; ComponentLink2URL: https://www.we-online.com/catalog/datasheet/74438336012.pdf; Mounting Technology: SMT; Operating Temperature: -40 to +125degC; Packaging: Tape and Reel; Size: 3020; Inductance: 1.2uH; Rated Current: 3.9A; Height: 2mm; Length: 3mm; Width: 3mm
footprint WE-MAPI_3020
pins: 1, 2

## 74438336015
designator L?, comment 1.5uH, 3.7A
WE-MAPI SMT Power Inductor, size 3020, 1.5uH, 3.7A; Manufacturer: Wurth Elektronik; Manufacturer Part Number: 74438336015; DC Resistance typ.: 33mOhm; DC Resistance max.: 39mOhm; Self Resonant Frequency: 51MHz; Saturation Current: 4.5A; ComponentLink1Description: Manufacturer; ComponentLink1URL: http://www.we-online.de; ComponentLink2Description: Datasheet; ComponentLink2URL: https://www.we-online.com/catalog/datasheet/74438336015.pdf; Mounting Technology: SMT; Operating Temperature: -40 to +125degC; Packaging: Tape and Reel; Size: 3020; Inductance: 1.5uH; Rated Current: 3.7A; Height: 2mm; Length: 3mm; Width: 3mm
footprint WE-MAPI_3020
pins: 1, 2

## 74438336022
designator L?, comment 2.2uH, 2.4A
WE-MAPI SMT Power Inductor, size 3020, 2.2uH, 2.4A; Manufacturer: Wurth Elektronik; Manufacturer Part Number: 74438336022; DC Resistance typ.: 67mOhm; DC Resistance max.: 80mOhm; Self Resonant Frequency: 42MHz; Saturation Current: 4.3A; ComponentLink1Description: Manufacturer; ComponentLink1URL: http://www.we-online.de; ComponentLink2Description: Datasheet; ComponentLink2URL: https://www.we-online.com/catalog/datasheet/74438336022.pdf; Mounting Technology: SMT; Operating Temperature: -40 to +125degC; Packaging: Tape and Reel; Size: 3020; Inductance: 2.2uH; Rated Current: 2.4A; Height: 2mm; Length: 3mm; Width: 3mm
footprint WE-MAPI_3020
pins: 1, 2

## 74438336033
designator L?, comment 3.3uH, 2.2A
WE-MAPI SMT Power Inductor, size 3020, 3.3uH, 2.2A; Manufacturer: Wurth Elektronik; Manufacturer Part Number: 74438336033; DC Resistance typ.: 99mOhm; DC Resistance max.: 114mOhm; Self Resonant Frequency: 39MHz; Saturation Current: 4.25A; ComponentLink1Description: Manufacturer; ComponentLink1URL: http://www.we-online.de; ComponentLink2Description: Datasheet; ComponentLink2URL: https://www.we-online.com/catalog/datasheet/74438336033.pdf; Mounting Technology: SMT; Operating Temperature: -40 to +125degC; Packaging: Tape and Reel; Size: 3020; Inductance: 3.3uH; Rated Current: 2.2A; Height: 2mm; Length: 3mm; Width: 3mm
footprint WE-MAPI_3020
pins: 1, 2

## 74438336047
designator L?, comment 4.7uH, 1.9A
WE-MAPI SMT Power Inductor, size 3020, 4.7uH, 1.9A; Manufacturer: Wurth Elektronik; Manufacturer Part Number: 74438336047; DC Resistance typ.: 137mOhm; DC Resistance max.: 158mOhm; Self Resonant Frequency: 30MHz; Saturation Current: 3.9A; ComponentLink1Description: Manufacturer; ComponentLink1URL: http://www.we-online.de; ComponentLink2Description: Datasheet; ComponentLink2URL: https://www.we-online.com/catalog/datasheet/74438336047.pdf; Mounting Technology: SMT; Operating Temperature: -40 to +125degC; Packaging: Tape and Reel; Size: 3020; Inductance: 4.7uH; Rated Current: 1.9A; Height: 2mm; Length: 3mm; Width: 3mm
footprint WE-MAPI_3020
pins: 1, 2

## 74438336068
designator L?, comment 6.8uH, 1.6A
WE-MAPI SMT Power Inductor, size 3020, 6.8uH, 1.6A; Manufacturer: Wurth Elektronik; Manufacturer Part Number: 74438336068; DC Resistance typ.: 168mOhm; DC Resistance max.: 193mOhm; Self Resonant Frequency: 22MHz; Saturation Current: 2.85A; ComponentLink1Description: Manufacturer; ComponentLink1URL: http://www.we-online.de; ComponentLink2Description: Datasheet; ComponentLink2URL: https://www.we-online.com/catalog/datasheet/74438336068.pdf; Mounting Technology: SMT; Operating Temperature: -40 to +125degC; Packaging: Tape and Reel; Size: 3020; Inductance: 6.8uH; Rated Current: 1.6A; Height: 2mm; Length: 3mm; Width: 3mm
footprint WE-MAPI_3020
pins: 1, 2

## 74438336100
designator L?, comment 10uH, 1.2A
WE-MAPI SMT Power Inductor, size 3020, 10uH, 1.2A; Manufacturer: Wurth Elektronik; Manufacturer Part Number: 74438336100; DC Resistance typ.: 280mOhm; DC Resistance max.: 322mOhm; Self Resonant Frequency: 18MHz; Saturation Current: 2.35A; ComponentLink1Description: Manufacturer; ComponentLink1URL: http://www.we-online.de; ComponentLink2Description: Datasheet; ComponentLink2URL: https://www.we-online.com/catalog/datasheet/74438336100.pdf; Mounting Technology: SMT; Operating Temperature: -40 to +125degC; Packaging: Tape and Reel; Size: 3020; Inductance: 10uH; Rated Current: 1.2A; Height: 2mm; Length: 3mm; Width: 3mm
footprint WE-MAPI_3020
pins: 1, 2

## 74438343010
designator L?, comment 1uH, 1.8A
WE-MAPI SMT Power Inductor, size 2010, 1uH, 1.8A; Manufacturer: Wurth Elektronik; Manufacturer Part Number: 74438343010; DC Resistance typ.: 86mOhm; DC Resistance max.: 104mOhm; Self Resonant Frequency: 99MHz; Saturation Current: 3.9A; ComponentLink1Description: Manufacturer; ComponentLink1URL: http://www.we-online.de; ComponentLink2Description: Datasheet; ComponentLink2URL: https://www.we-online.com/catalog/datasheet/74438343010.pdf; Mounting Technology: SMT; Operating Temperature: -40 to +125degC; Packaging: Tape and Reel; Size: 2010; Inductance: 1uH; Rated Current: 1.8A; Height: 1mm; Length: 2mm; Width: 1.6mm
footprint WE-MAPI_2010
pins: 1, 2

## 74438343012
designator L?, comment 1.2uH, 1.5A
WE-MAPI SMT Power Inductor, size 2010, 1.2uH, 1.5A; Manufacturer: Wurth Elektronik; Manufacturer Part Number: 74438343012; DC Resistance typ.: 114mOhm; DC Resistance max.: 136mOhm; Self Resonant Frequency: 96MHz; Saturation Current: 3.8A; ComponentLink1Description: Manufacturer; ComponentLink1URL: http://www.we-online.de; ComponentLink2Description: Datasheet; ComponentLink2URL: https://www.we-online.com/catalog/datasheet/74438343012.pdf; Mounting Technology: SMT; Operating Temperature: -40 to +125degC; Packaging: Tape and Reel; Size: 2010; Inductance: 1.2uH; Rated Current: 1.5A; Height: 1mm; Length: 2mm; Width: 1.6mm
footprint WE-MAPI_2010
pins: 1, 2

## 74438343015
designator L?, comment 1.5uH, 1.3A
WE-MAPI SMT Power Inductor, size 2010, 1.5uH, 1.3A; Manufacturer: Wurth Elektronik; Manufacturer Part Number: 74438343015; DC Resistance typ.: 150mOhm; DC Resistance max.: 180mOhm; Self Resonant Frequency: 85MHz; Saturation Current: 3A; ComponentLink1Description: Manufacturer; ComponentLink1URL: http://www.we-online.de; ComponentLink2Description: Datasheet; ComponentLink2URL: https://www.we-online.com/catalog/datasheet/74438343015.pdf; Mounting Technology: SMT; Operating Temperature: -40 to +125degC; Packaging: Tape and Reel; Size: 2010; Inductance: 1.5uH; Rated Current: 1.3A; Height: 1mm; Length: 2mm; Width: 1.6mm
footprint WE-MAPI_2010
pins: 1, 2

## 74438343022
designator L?, comment 2.2uH, 1.1A
WE-MAPI SMT Power Inductor, size 2010, 2.2uH, 1.1A; Manufacturer: Wurth Elektronik; Manufacturer Part Number: 74438343022; DC Resistance typ.: 225mOhm; DC Resistance max.: 270mOhm; Self Resonant Frequency: 70MHz; Saturation Current: 2.5A; ComponentLink1Description: Manufacturer; ComponentLink1URL: http://www.we-online.de; ComponentLink2Description: Datasheet; ComponentLink2URL: https://www.we-online.com/catalog/datasheet/74438343022.pdf; Mounting Technology: SMT; Operating Temperature: -40 to +125degC; Packaging: Tape and Reel; Size: 2010; Inductance: 2.2uH; Rated Current: 1.1A; Height: 1mm; Length: 2mm; Width: 1.6mm
footprint WE-MAPI_2010
pins: 1, 2

## 74438356010
designator L?, comment 1uH, 7.2A
WE-MAPI SMT Power Inductor, size 4020, 1uH, 7.2A; Manufacturer: Wurth Elektronik; Manufacturer Part Number: 74438356010; DC Resistance typ.: 12mOhm; DC Resistance max.: 15mOhm; Self Resonant Frequency: 55MHz; Saturation Current: 9A; ComponentLink1Description: Manufacturer; ComponentLink1URL: http://www.we-online.de; ComponentLink2Description: Datasheet; ComponentLink2URL: https://www.we-online.com/catalog/datasheet/74438356010.pdf; Mounting Technology: SMT; Operating Temperature: -40 to +125degC; Packaging: Tape and Reel; Size: 4020; Inductance: 1uH; Rated Current: 7.2A; Height: 2.1mm; Length: 4.1mm; Width: 4.1mm
footprint WE-MAPI_4020
pins: 1, 2

## 74438356010HT
designator L?, comment 1uH, 7.2A
WE-MAPI SMT Power Inductor, size 4020, 1uH, 7.2A; Manufacturer: Wurth Elektronik; Manufacturer Part Number: 74438356010HT; DC Resistance typ.: 13.5mOhm; DC Resistance max.: 15.5mOhm; Self Resonant Frequency: 46MHz; Saturation Current: 6.5A; ComponentLink1Description: Manufacturer; ComponentLink1URL: http://www.we-online.de; ComponentLink2Description: Datasheet; ComponentLink2URL: https://www.we-online.com/catalog/datasheet/74438356010HT.pdf; Mounting Technology: SMT; Operating Temperature: -55 to +150degC; Packaging: Tape and Reel; Size: 4020; Inductance: 1uH; Rated Current: 7.2A; Height: 2.1mm; Length: 4.1mm; Width: 4.1mm
footprint WE-MAPI_4020
pins: 1, 2

## 74438356012
designator L?, comment 1.2uH, 5.8A
WE-MAPI SMT Power Inductor, size 4020, 1.2uH, 5.8A; Manufacturer: Wurth Elektronik; Manufacturer Part Number: 74438356012; DC Resistance typ.: 15mOhm; DC Resistance max.: 18mOhm; Self Resonant Frequency: 52MHz; Saturation Current: 9A; ComponentLink1Description: Manufacturer; ComponentLink1URL: http://www.we-online.de; ComponentLink2Description: Datasheet; ComponentLink2URL: https://www.we-online.com/catalog/datasheet/74438356012.pdf; Mounting Technology: SMT; Operating Temperature: -40 to +125degC; Packaging: Tape and Reel; Size: 4020; Inductance: 1.2uH; Rated Current: 5.8A; Height: 2.1mm; Length: 4.1mm; Width: 4.1mm
footprint WE-MAPI_4020
pins: 1, 2

## 74438356012HT
designator L?, comment 1.2uH, 5.8A
WE-MAPI SMT Power Inductor, size 4020, 1.2uH, 5.8A; Manufacturer: Wurth Elektronik; Manufacturer Part Number: 74438356012HT; DC Resistance typ.: 16mOhm; DC Resistance max.: 18.4mOhm; Self Resonant Frequency: 45MHz; Saturation Current: 6.9A; ComponentLink1Description: Manufacturer; ComponentLink1URL: http://www.we-online.de; ComponentLink2Description: Datasheet; ComponentLink2URL: https://www.we-online.com/catalog/datasheet/74438356012HT.pdf; Mounting Technology: SMT; Operating Temperature: -55 to +150degC; Packaging: Tape and Reel; Size: 4020; Inductance: 1.2uH; Rated Current: 5.8A; Height: 2.1mm; Length: 4.1mm; Width: 4.1mm
footprint WE-MAPI_4020
pins: 1, 2

## 74438356015
designator L?, comment 1.5uH, 5.8A
WE-MAPI SMT Power Inductor, size 4020, 1.5uH, 5.8A; Manufacturer: Wurth Elektronik; Manufacturer Part Number: 74438356015; DC Resistance typ.: 16mOhm; DC Resistance max.: 19mOhm; Self Resonant Frequency: 48MHz; Saturation Current: 7.8A; ComponentLink1Description: Manufacturer; ComponentLink1URL: http://www.we-online.de; ComponentLink2Description: Datasheet; ComponentLink2URL: https://www.we-online.com/catalog/datasheet/74438356015.pdf; Mounting Technology: SMT; Operating Temperature: -40 to +125degC; Packaging: Tape and Reel; Size: 4020; Inductance: 1.5uH; Rated Current: 5.8A; Height: 2.1mm; Length: 4.1mm; Width: 4.1mm
footprint WE-MAPI_4020
pins: 1, 2

## 74438356015HT
designator L?, comment 1.5uH, 5.5A
WE-MAPI SMT Power Inductor, size 4020, 1.5uH, 5.5A; Manufacturer: Wurth Elektronik; Manufacturer Part Number: 74438356015HT; DC Resistance typ.: 18mOhm; DC Resistance max.: 20.7mOhm; Self Resonant Frequency: 40MHz; Saturation Current: 6.6A; ComponentLink1Description: Manufacturer; ComponentLink1URL: http://www.we-online.de; ComponentLink2Description: Datasheet; ComponentLink2URL: https://www.we-online.com/catalog/datasheet/74438356015HT.pdf; Mounting Technology: SMT; Operating Temperature: -55 to +150degC; Packaging: Tape and Reel; Size: 4020; Inductance: 1.5uH; Rated Current: 5.5A; Height: 2.1mm; Length: 4.1mm; Width: 4.1mm
footprint WE-MAPI_4020
pins: 1, 2

## 74438356018
designator L?, comment 1.8uH, 4.6A
WE-MAPI SMT Power Inductor, size 4020, 1.8uH, 4.6A; Manufacturer: Wurth Elektronik; Manufacturer Part Number: 74438356018; DC Resistance typ.: 24.5mOhm; DC Resistance max.: 30mOhm; Self Resonant Frequency: 40MHz; Saturation Current: 6.5A; ComponentLink1Description: Manufacturer; ComponentLink1URL: http://www.we-online.de; ComponentLink2Description: Datasheet; ComponentLink2URL: https://www.we-online.com/catalog/datasheet/74438356018.pdf; Mounting Technology: SMT; Operating Temperature: -40 to +125degC; Packaging: Tape and Reel; Size: 4020; Inductance: 1.8uH; Rated Current: 4.6A; Height: 2.1mm; Length: 4.1mm; Width: 4.1mm
footprint WE-MAPI_4020
pins: 1, 2

## 74438356018HT
designator L?, comment 1.8uH, 4.6A
WE-MAPI SMT Power Inductor, size 4020, 1.8uH, 4.6A; Manufacturer: Wurth Elektronik; Manufacturer Part Number: 74438356018HT; DC Resistance typ.: 26mOhm; DC Resistance max.: 29.9mOhm; Self Resonant Frequency: 37.5MHz; Saturation Current: 6.2A; ComponentLink1Description: Manufacturer; ComponentLink1URL: http://www.we-online.de; ComponentLink2Description: Datasheet; ComponentLink2URL: https://www.we-online.com/catalog/datasheet/74438356018HT.pdf; Mounting Technology: SMT; Operating Temperature: -55 to +150degC; Packaging: Tape and Reel; Size: 4020; Inductance: 1.8uH; Rated Current: 4.6A; Height: 2.1mm; Length: 4.1mm; Width: 4.1mm
footprint WE-MAPI_4020
pins: 1, 2

## 74438356022
designator L?, comment 2.2uH, 4.7A
WE-MAPI SMT Power Inductor, size 4020, 2.2uH, 4.7A; Manufacturer: Wurth Elektronik; Manufacturer Part Number: 74438356022; DC Resistance typ.: 29mOhm; DC Resistance max.: 35mOhm; Self Resonant Frequency: 34MHz; Saturation Current: 6.2A; ComponentLink1Description: Manufacturer; ComponentLink1URL: http://www.we-online.de; ComponentLink2Description: Datasheet; ComponentLink2URL: https://www.we-online.com/catalog/datasheet/74438356022.pdf; Mounting Technology: SMT; Operating Temperature: -40 to +125degC; Packaging: Tape and Reel; Size: 4020; Inductance: 2.2uH; Rated Current: 4.7A; Height: 2.1mm; Length: 4.1mm; Width: 4.1mm
footprint WE-MAPI_4020
pins: 1, 2

## 74438356022HT
designator L?, comment 2.2uH, 4.5A
WE-MAPI SMT Power Inductor, size 4020, 2.2uH, 4.5A; Manufacturer: Wurth Elektronik; Manufacturer Part Number: 74438356022HT; DC Resistance typ.: 28mOhm; DC Resistance max.: 32.2mOhm; Self Resonant Frequency: 30MHz; Saturation Current: 5.6A; ComponentLink1Description: Manufacturer; ComponentLink1URL: http://www.we-online.de; ComponentLink2Description: Datasheet; ComponentLink2URL: https://www.we-online.com/catalog/datasheet/74438356022HT.pdf; Mounting Technology: SMT; Operating Temperature: -55 to +150degC; Packaging: Tape and Reel; Size: 4020; Inductance: 2.2uH; Rated Current: 4.5A; Height: 2.1mm; Length: 4.1mm; Width: 4.1mm
footprint WE-MAPI_4020
pins: 1, 2

## 74438356033
designator L?, comment 3.3uH, 3.6A
WE-MAPI SMT Power Inductor, size 4020, 3.3uH, 3.6A; Manufacturer: Wurth Elektronik; Manufacturer Part Number: 74438356033; DC Resistance typ.: 39.9mOhm; DC Resistance max.: 48mOhm; Self Resonant Frequency: 26MHz; Saturation Current: 5.5A; ComponentLink1Description: Manufacturer; ComponentLink1URL: http://www.we-online.de; ComponentLink2Description: Datasheet; ComponentLink2URL: https://www.we-online.com/catalog/datasheet/74438356033.pdf; Mounting Technology: SMT; Operating Temperature: -40 to +125degC; Packaging: Tape and Reel; Size: 4020; Inductance: 3.3uH; Rated Current: 3.6A; Height: 2.1mm; Length: 4.1mm; Width: 4.1mm
footprint WE-MAPI_4020
pins: 1, 2